# EAGLE library part DL2416 (library Passives)
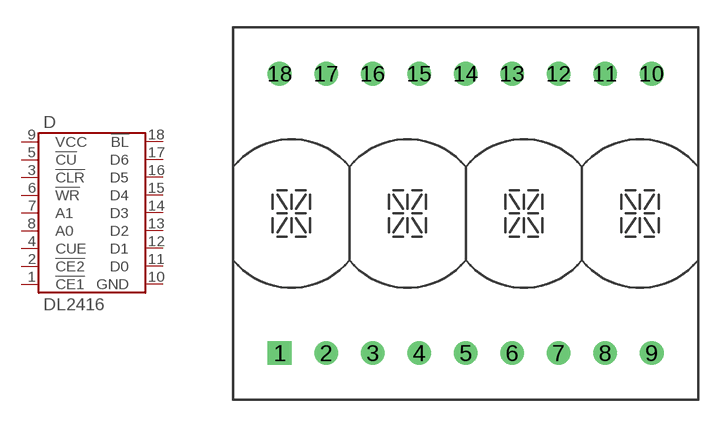
[diagram p11: symbol with the pads of DL2416; footprint DL2416]

Designator prefix D

## DL2416  [DL2416]
1  !CE1
2  !CE2
3  !CLR
4  CUE
5  !CU
6  !WR
7  A1
8  A0
9  VCC
10  GND
11  D0
12  D1
13  D2
14  D3
15  D4
16  D5
17  D6
18  !BL

## Footprint DL2416 (pad centres in mm)
drill 0.8 square: 1 -10.16,-7.62
drill 0.8: 2 -7.62,-7.62; 3 -5.08,-7.62; 4 -2.54,-7.62; 5 0,-7.62; 6 2.54,-7.62; 7 5.08,-7.62; 8 7.62,-7.62; 9 10.16,-7.62; 10 10.16,7.62; 11 7.62,7.62; 12 5.08,7.62; 13 2.54,7.62; 14 0,7.62; 15 -2.54,7.62; 16 -5.08,7.62; 17 -7.62,7.62; 18 -10.16,7.62